# EAGLE library part E01-ML01SP4 (library ebyte-radio)
EBYTE E01-ML01SP4 radio module Datasheet and info: http://www.ebyte.com/en/product-view-news.aspx?id=114
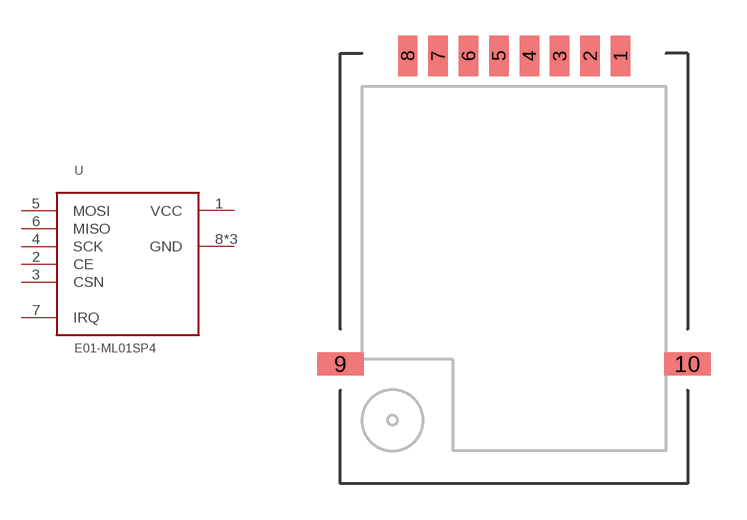
[diagram p2: symbol with the pads of E01-ML01SP4; footprint E01-ML01SP4]

Designator prefix -

## E01-ML01SP4  [E01-ML01SP4]
1  VCC  pwr
2  CE  in
3  CSN  in
4  SCK  in
5  MOSI  in
6  MISO  out
7  IRQ  out
8  GND  pwr
9  GND  pwr
10  GND  pwr

## Footprint E01-ML01SP4 (pad centres in mm)
EBYTE E01-ML01SP4 radio module Datasheet and info: http://www.ebyte.com/en/product-view-news.aspx?id=114
smd 0.813 x 1.676: 1 4.45,8.89; 2 3.18,8.89; 3 1.91,8.89; 4 0.64,8.89; 5 -0.63,8.89; 6 -1.9,8.89; 7 -3.17,8.89; 8 -4.44,8.89
smd 1.93 x 0.965: 9 -7.25,-4; 10 7.25,-4